# Altium footprint library SparkFun-Aesthetics.PCBLIB: 96 footprints (part 4 of 6)
Each footprint in its own frame and in the unit in brackets; x right, y up, seen from the top. Pads: shape width x height; smd on the part's side, far side on the other; paste and mask are expansions set on the pad; w line width, h text height; cw(c..) or ccw(c..) is an arc to the next point about the centre after c.
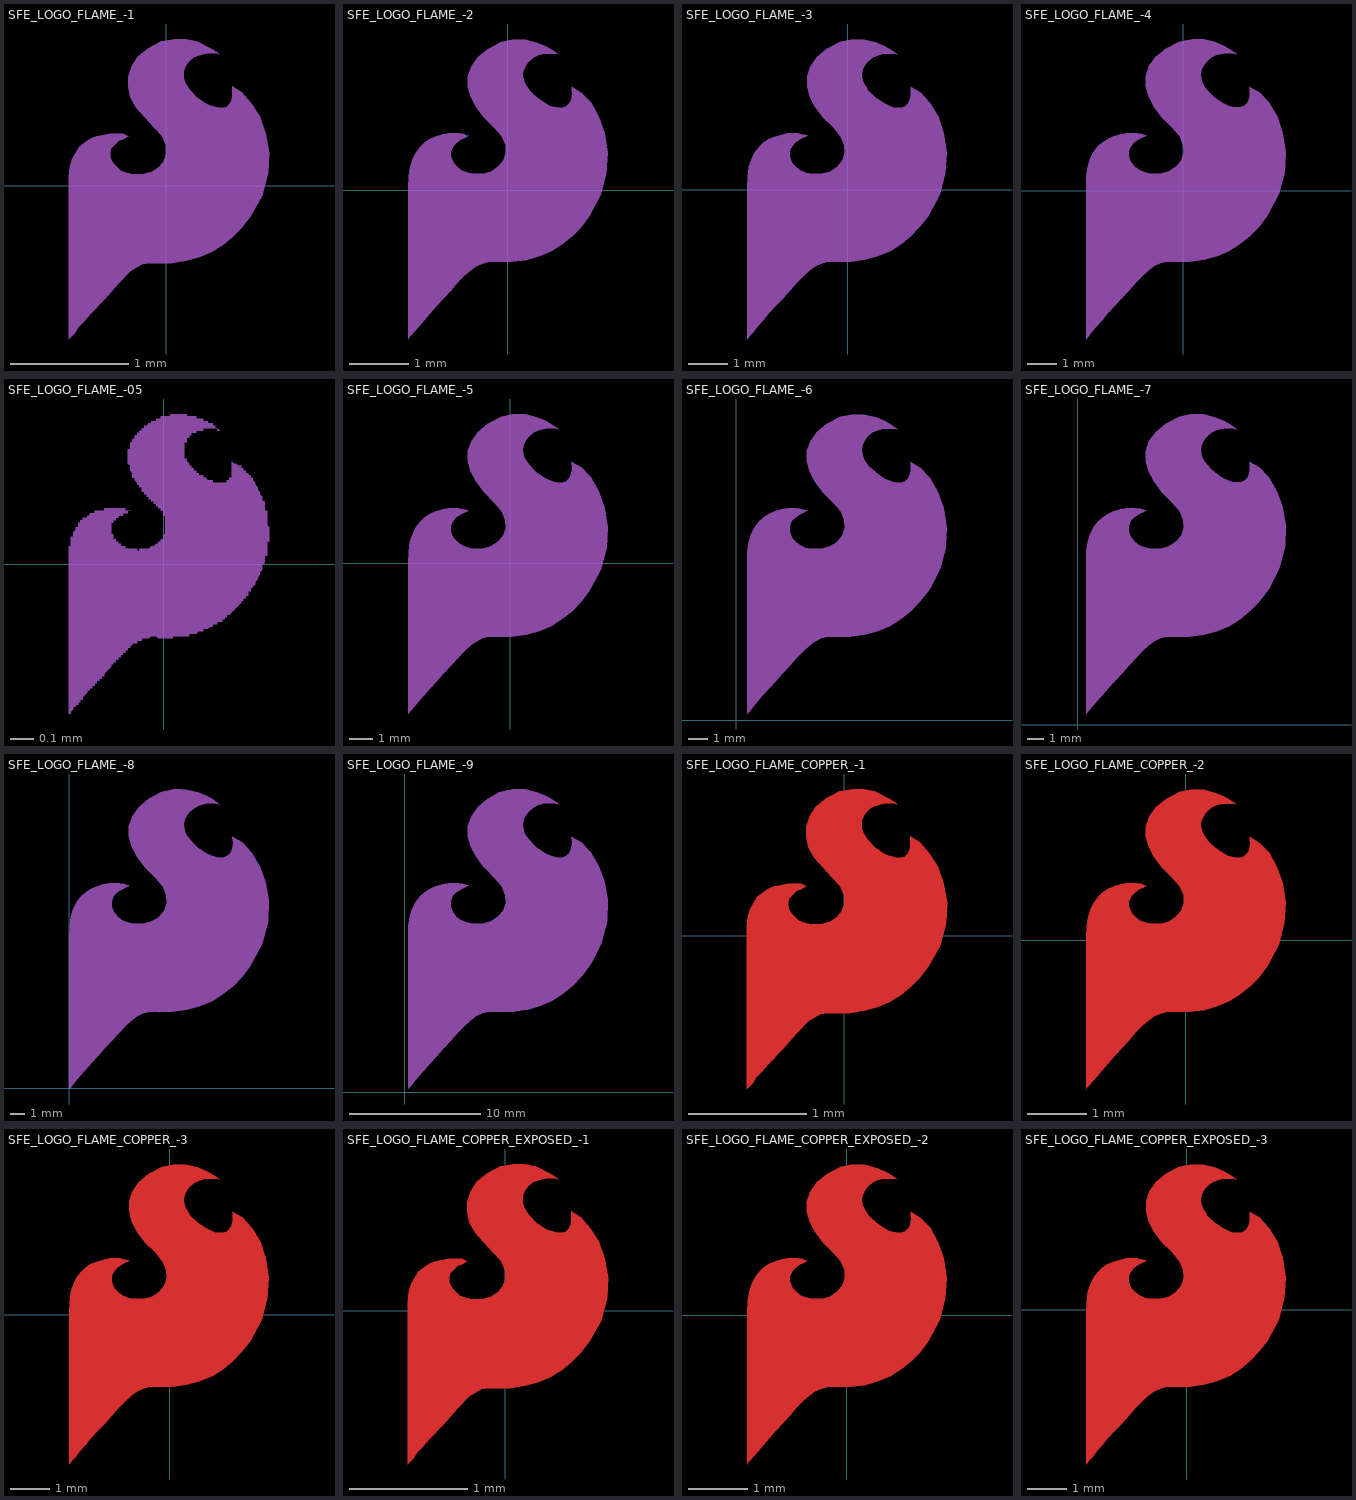
[diagram p3: the footprints below, top view; thin cyan lines are the x and y axes]

## SFE_LOGO_FLAME_-1 [mm]
tPlace:
  region: 0.557,0.839 0.557,0.749 0.547,0.719 0.537,0.699 0.507,0.669 0.477,0.659 0.447,0.659 0.367,0.679 0.327,0.699 0.297,0.719 0.257,0.749 0.197,0.809 0.157,0.869 0.147,0.909 0.147,0.969 0.157,0.999 0.167,1.019 0.187,1.049 0.227,1.079 0.267,1.099 0.317,1.109 0.357,1.119 0.417,1.119 0.437,1.109 0.447,1.109 0.437,1.119 0.397,1.149 0.257,1.219 0.167,1.239 0.067,1.239 -0.043,1.219 -0.153,1.159 -0.243,1.089 -0.293,1.009 -0.323,0.919 -0.323,0.839 -0.303,0.749 -0.253,0.659 -0.183,0.579 -0.103,0.489 -0.033,0.419 -0.003,0.339 -0.003,0.269 -0.023,0.209 -0.063,0.159 -0.123,0.119 -0.203,0.099 -0.283,0.099 -0.333,0.109 -0.383,0.129 -0.443,0.189 -0.463,0.219 -0.473,0.249 -0.473,0.289 -0.463,0.319 -0.403,0.379 -0.373,0.389 -0.333,0.409 -0.323,0.419 -0.363,0.439 -0.483,0.439 -0.543,0.429 -0.593,0.419 -0.643,0.399 -0.683,0.369 -0.733,0.329 -0.793,0.229 -0.813,0.159 -0.823,0.079 -0.823,-1.291 -0.773,-1.241 -0.743,-1.191 -0.693,-1.141 -0.643,-1.081 -0.523,-0.961 -0.403,-0.821 -0.303,-0.721 -0.203,-0.661 -0.143,-0.651 0.047,-0.651 0.167,-0.631 0.277,-0.601 0.377,-0.561 0.477,-0.501 0.557,-0.431 0.637,-0.351 0.707,-0.261 0.807,-0.081 0.857,0.109 0.867,0.279 0.837,0.439 0.787,0.589 0.717,0.699 0.637,0.789

## SFE_LOGO_FLAME_-2 [mm]
tPlace:
  region: 1.088,1.756 1.088,1.696 1.098,1.646 1.078,1.526 1.048,1.476 0.998,1.426 0.928,1.396 0.858,1.396 0.718,1.436 0.638,1.476 0.498,1.576 0.428,1.636 0.378,1.686 0.328,1.766 0.288,1.826 0.268,1.896 0.258,1.956 0.268,2.016 0.288,2.066 0.318,2.126 0.358,2.176 0.438,2.246 0.518,2.286 0.598,2.306 0.688,2.316 0.818,2.316 0.858,2.306 0.868,2.306 0.838,2.326 0.768,2.376 0.648,2.446 0.498,2.506 0.318,2.556 0.118,2.566 -0.102,2.516 -0.332,2.396 -0.502,2.256 -0.612,2.096 -0.672,1.926 -0.672,1.756 -0.622,1.586 -0.532,1.406 -0.402,1.236 -0.232,1.066 -0.102,0.916 -0.032,0.766 -0.032,0.626 -0.072,0.496 -0.162,0.396 -0.282,0.316 -0.422,0.276 -0.582,0.276 -0.692,0.306 -0.782,0.336 -0.852,0.396 -0.912,0.456 -0.942,0.516 -0.962,0.586 -0.962,0.656 -0.942,0.716 -0.912,0.756 -0.872,0.796 -0.822,0.836 -0.782,0.866 -0.732,0.886 -0.672,0.916 -0.662,0.926 -0.672,0.926 -0.702,0.936 -0.752,0.956 -0.822,0.966 -1.002,0.966 -1.102,0.946 -1.212,0.916 -1.312,0.876 -1.402,0.816 -1.482,0.736 -1.552,0.646 -1.612,0.536 -1.652,0.396 -1.672,0.236 -1.682,0.046 -1.682,-2.524 -1.672,-2.504 -1.632,-2.464 -1.572,-2.394 -1.502,-2.304 -1.412,-2.204 -1.312,-2.084 -1.202,-1.964 -1.082,-1.834 -0.952,-1.694 -0.842,-1.564 -0.732,-1.454 -0.632,-1.364 -0.532,-1.294 -0.422,-1.244 -0.312,-1.214 0.078,-1.214 0.318,-1.184 0.538,-1.124 0.738,-1.034 0.928,-0.914 1.098,-0.784 1.248,-0.624 1.388,-0.444 1.578,-0.074 1.678,0.286 1.698,0.636 1.648,0.966 1.548,1.246 1.418,1.486 1.248,1.656

## SFE_LOGO_FLAME_-3 [mm]
tPlace:
  region: 1.602,2.603 1.602,2.583 1.612,2.533 1.612,2.373 1.582,2.283 1.542,2.193 1.472,2.123 1.362,2.083 1.262,2.083 1.152,2.103 1.042,2.143 0.932,2.203 0.712,2.343 0.532,2.523 0.462,2.633 0.402,2.733 0.372,2.823 0.362,2.923 0.372,3.003 0.402,3.093 0.452,3.173 0.512,3.253 0.622,3.343 0.752,3.413 0.872,3.443 1.002,3.463 1.102,3.463 1.192,3.453 1.252,3.443 1.272,3.443 1.232,3.473 1.122,3.553 0.942,3.653 0.722,3.753 0.442,3.813 0.142,3.833 -0.188,3.763 -0.528,3.583 -0.788,3.363 -0.948,3.123 -1.028,2.883 -1.028,2.623 -0.958,2.363 -0.818,2.103 -0.628,1.843 -0.368,1.583 -0.178,1.353 -0.078,1.133 -0.068,0.923 -0.138,0.733 -0.268,0.573 -0.448,0.463 -0.668,0.403 -0.908,0.403 -1.068,0.433 -1.198,0.493 -1.308,0.573 -1.388,0.663 -1.448,0.763 -1.468,0.863 -1.468,0.963 -1.448,1.053 -1.398,1.123 -1.338,1.183 -1.268,1.243 -1.128,1.323 -1.068,1.343 -1.038,1.363 -1.018,1.373 -1.038,1.383 -1.088,1.393 -1.158,1.413 -1.268,1.433 -1.388,1.443 -1.528,1.433 -1.678,1.403 -1.848,1.353 -1.988,1.293 -2.128,1.203 -2.248,1.093 -2.358,0.953 -2.438,0.783 -2.508,0.583 -2.538,0.333 -2.548,0.043 -2.548,-3.797 -2.528,-3.777 -2.478,-3.707 -2.388,-3.607 -2.278,-3.477 -2.148,-3.317 -1.998,-3.147 -1.828,-2.957 -1.648,-2.767 -1.458,-2.557 -1.288,-2.367 -1.128,-2.207 -0.978,-2.067 -0.828,-1.957 -0.668,-1.877 -0.488,-1.837 0.092,-1.837 0.442,-1.787 0.772,-1.697 1.082,-1.567 1.362,-1.387 1.612,-1.187 1.842,-0.947 2.052,-0.677 2.342,-0.127 2.492,0.423 2.522,0.943 2.452,1.433 2.302,1.863 2.092,2.213 1.852,2.473 1.592,2.613

## SFE_LOGO_FLAME_-4 [mm]
tPlace:
  region: 2.233,3.522 2.243,3.502 2.253,3.432 2.253,3.332 2.243,3.212 2.223,3.092 2.163,2.972 2.063,2.882 1.913,2.832 1.783,2.832 1.643,2.852 1.493,2.912 1.343,2.982 1.193,3.072 1.053,3.182 0.923,3.292 0.813,3.412 0.713,3.552 0.643,3.692 0.603,3.822 0.583,3.942 0.603,4.062 0.643,4.172 0.703,4.282 0.783,4.382 0.933,4.512 1.103,4.602 1.273,4.642 1.433,4.662 1.583,4.662 1.693,4.652 1.773,4.642 1.803,4.642 1.753,4.682 1.603,4.792 1.363,4.922 1.063,5.052 0.703,5.142 0.293,5.152 -0.147,5.062 -0.597,4.822 -0.947,4.532 -1.167,4.222 -1.277,3.892 -1.277,3.542 -1.177,3.202 -0.997,2.852 -0.727,2.502 -0.397,2.162 -0.127,1.852 -0.007,1.552 0.013,1.272 -0.077,1.022 -0.257,0.822 -0.497,0.662 -0.787,0.582 -1.107,0.582 -1.317,0.632 -1.497,0.712 -1.637,0.812 -1.747,0.932 -1.817,1.072 -1.857,1.202 -1.857,1.332 -1.817,1.452 -1.757,1.552 -1.677,1.632 -1.587,1.702 -1.487,1.762 -1.397,1.812 -1.327,1.842 -1.277,1.862 -1.257,1.882 -1.277,1.892 -1.347,1.912 -1.447,1.932 -1.577,1.952 -1.747,1.972 -1.937,1.952 -2.137,1.922 -2.357,1.862 -2.547,1.772 -2.727,1.652 -2.897,1.512 -3.037,1.322 -3.157,1.102 -3.237,0.822 -3.287,0.492 -3.297,0.112 -3.297,-5.018 -3.267,-4.988 -3.197,-4.898 -3.087,-4.758 -2.937,-4.588 -2.757,-4.378 -2.557,-4.148 -2.327,-3.898 -2.097,-3.638 -1.837,-3.358 -1.607,-3.108 -1.397,-2.888 -1.197,-2.698 -0.997,-2.558 -0.787,-2.448 -0.547,-2.398 0.223,-2.398 0.703,-2.338 1.143,-2.208 1.543,-2.038 1.913,-1.808 2.253,-1.528 2.563,-1.208 2.843,-0.848 3.233,-0.118 3.433,0.612 3.473,1.312 3.373,1.962 3.173,2.532 2.893,3.002 2.573,3.342 2.233,3.532

## SFE_LOGO_FLAME_-05 [mm]
tPlace:
  drawing of 1 lines, arcs and shapes, not listed

## SFE_LOGO_FLAME_-5 [mm]
tPlace:
  region: 2.584,4.293 2.594,4.263 2.604,4.173 2.614,4.053 2.604,3.903 2.564,3.753 2.494,3.613 2.364,3.493 2.184,3.423 2.024,3.423 1.844,3.463 1.664,3.523 1.474,3.613 1.284,3.733 1.104,3.863 0.954,4.003 0.814,4.153 0.684,4.333 0.594,4.503 0.544,4.663 0.524,4.823 0.544,4.963 0.594,5.103 0.664,5.243 0.774,5.373 0.964,5.533 1.164,5.633 1.384,5.693 1.584,5.723 1.764,5.723 1.914,5.703 2.004,5.693 2.044,5.693 1.974,5.743 1.784,5.873 1.494,6.043 1.114,6.203 0.664,6.313 0.154,6.333 -0.386,6.213 -0.956,5.923 -1.386,5.553 -1.666,5.163 -1.796,4.753 -1.806,4.323 -1.686,3.883 -1.446,3.453 -1.116,3.013 -0.696,2.593 -0.376,2.213 -0.216,1.833 -0.196,1.483 -0.306,1.173 -0.526,0.913 -0.826,0.723 -1.186,0.623 -1.596,0.623 -1.856,0.683 -2.076,0.783 -2.256,0.913 -2.396,1.063 -2.486,1.223 -2.536,1.393 -2.536,1.563 -2.486,1.713 -2.406,1.823 -2.306,1.933 -2.196,2.013 -2.076,2.093 -1.956,2.153 -1.866,2.193 -1.806,2.223 -1.776,2.233 -1.806,2.253 -1.886,2.273 -2.016,2.303 -2.186,2.333 -2.396,2.353 -2.626,2.333 -2.876,2.293 -3.156,2.213 -3.396,2.103 -3.626,1.963 -3.826,1.773 -4.006,1.543 -4.146,1.263 -4.256,0.923 -4.316,0.513 -4.326,0.033 -4.326,-6.377 -4.296,-6.337 -4.206,-6.227 -4.066,-6.067 -3.876,-5.847 -3.656,-5.587 -3.406,-5.297 -3.126,-4.987 -2.826,-4.657 -2.506,-4.307 -2.216,-3.997 -1.956,-3.717 -1.706,-3.487 -1.456,-3.307 -1.186,-3.177 -0.896,-3.107 0.074,-3.107 0.664,-3.027 1.214,-2.877 1.724,-2.657 2.184,-2.367 2.614,-2.017 2.994,-1.627 3.344,-1.177 3.414,-1.057 3.834,-0.257 4.084,0.653 4.124,1.533 4.004,2.343 3.754,3.053 3.404,3.643 3.004,4.073 2.584,4.313

## SFE_LOGO_FLAME_-6 [mm]
tPlace:
  region: 8.85,13.12 8.86,13.08 8.87,12.98 8.88,12.83 8.87,12.65 8.82,12.47 8.74,12.3 8.59,12.16 8.37,12.08 8.18,12.08 7.96,12.12 7.74,12.2 7.51,12.31 7.29,12.45 7.08,12.61 6.89,12.78 6.72,12.95 6.57,13.17 6.46,13.37 6.4,13.57 6.38,13.75 6.4,13.93 6.46,14.09 6.55,14.26 6.67,14.41 6.9,14.61 7.15,14.73 7.4,14.8 7.65,14.83 7.86,14.83 8.04,14.82 8.16,14.8 8.2,14.8 8.12,14.86 7.89,15.02 7.54,15.22 7.09,15.41 6.54,15.54 5.94,15.57 5.28,15.43 4.6,15.08 4.08,14.64 3.75,14.17 3.59,13.67 3.59,13.16 3.73,12.63 4.01,12.11 4.4,11.59 4.91,11.08 5.3,10.62 5.49,10.17 5.51,9.75 5.38,9.37 5.12,9.06 4.76,8.84 4.32,8.71 3.84,8.71 3.52,8.78 3.25,8.9 3.04,9.06 2.87,9.24 2.76,9.44 2.71,9.64 2.71,9.84 2.76,10.02 2.85,10.16 2.98,10.28 3.12,10.39 3.26,10.48 3.4,10.55 3.51,10.6 3.59,10.64 3.61,10.65 3.58,10.67 3.48,10.7 3.33,10.74 3.12,10.77 2.88,10.79 2.6,10.77 2.29,10.72 1.96,10.63 1.67,10.5 1.4,10.32 1.15,10.1 0.94,9.82 0.77,9.48 0.64,9.07 0.57,8.58 0.56,8 0.56,7.04 0.56,6.08 0.56,5.12 0.56,4.16 0.56,3.2 0.56,2.24 0.56,1.28 0.56,0.32 0.59,0.36 0.7,0.49 0.87,0.69 1.09,0.96 1.36,1.27 1.67,1.62 2,1.99 2.36,2.38 2.74,2.8 3.08,3.18 3.4,3.51 3.7,3.78 4,4 4.32,4.16 4.67,4.24 5.06,4.24 5.83,4.24 6.54,4.34 7.2,4.52 7.81,4.79 8.37,5.13 8.88,5.54 9.34,6.02 9.75,6.56 9.85,6.7 10.34,7.66 10.4,7.8 10.64,8.75 10.66,8.89 10.7,9.8 10.55,10.78 10.25,11.63 9.83,12.34 9.35,12.85 8.84,13.14

## SFE_LOGO_FLAME_-7 [mm]
tPlace:
  region: 10.18,15.58 10.18,15.54 10.2,15.41 10.21,15.24 10.2,15.03 10.15,14.82 10.04,14.62 9.87,14.46 9.62,14.37 9.39,14.37 9.14,14.41 8.88,14.5 8.62,14.63 8.35,14.8 8.11,14.98 7.89,15.18 7.69,15.39 7.51,15.64 7.39,15.87 7.31,16.1 7.29,16.31 7.31,16.52 7.38,16.71 7.49,16.9 7.64,17.08 7.9,17.31 8.19,17.46 8.49,17.54 8.77,17.58 9.03,17.58 9.23,17.56 9.37,17.53 9.42,17.53 9.32,17.61 9.06,17.79 8.65,18.03 8.12,18.25 7.49,18.41 6.78,18.43 6.01,18.27 5.22,17.86 4.61,17.35 4.22,16.8 4.04,16.22 4.03,15.62 4.2,15.01 4.53,14.4 4.99,13.79 5.58,13.19 6.03,12.66 6.26,12.14 6.28,11.65 6.12,11.21 5.82,10.85 5.4,10.58 4.89,10.44 4.33,10.44 3.96,10.52 3.64,10.66 3.39,10.84 3.2,11.05 3.08,11.28 3.01,11.52 3.01,11.75 3.07,11.96 3.18,12.12 3.32,12.27 3.49,12.39 3.66,12.5 3.81,12.58 3.94,12.64 4.03,12.68 4.07,12.7 4.03,12.72 3.91,12.76 3.73,12.8 3.49,12.84 3.21,12.86 2.88,12.84 2.52,12.78 2.14,12.67 1.8,12.52 1.48,12.31 1.2,12.06 0.95,11.73 0.75,11.33 0.6,10.85 0.51,10.28 0.5,9.61 0.5,8.49 0.5,7.37 0.5,6.25 0.5,5.13 0.5,4 0.5,2.88 0.5,1.76 0.5,0.64 0.54,0.69 0.67,0.85 0.87,1.08 1.13,1.39 1.44,1.75 1.79,2.16 2.18,2.59 2.6,3.04 3.05,3.53 3.45,3.98 3.82,4.36 4.17,4.69 4.52,4.94 4.89,5.12 5.3,5.22 5.76,5.22 6.65,5.22 7.49,5.33 8.26,5.54 8.97,5.85 9.62,6.25 10.21,6.74 10.75,7.3 11.23,7.92 11.34,8.08 11.92,9.21 11.98,9.37 12.27,10.48 12.29,10.64 12.33,11.71 12.32,11.86 12.16,12.84 12.13,12.98 11.81,13.84 11.32,14.67 10.76,15.27 10.17,15.6

## SFE_LOGO_FLAME_-8 [mm]
tPlace:
  region: 11.06,17.02 11.06,16.96 11.09,16.82 11.1,16.62 11.08,16.39 11.02,16.14 10.91,15.92 10.71,15.74 10.42,15.63 10.16,15.63 9.88,15.68 9.58,15.78 9.27,15.93 8.98,16.12 8.69,16.33 8.44,16.56 8.22,16.79 8.01,17.08 7.87,17.35 7.79,17.61 7.76,17.85 7.79,18.09 7.87,18.31 7.99,18.53 8.16,18.73 8.46,18.99 8.79,19.16 9.13,19.26 9.45,19.3 9.74,19.3 9.98,19.27 10.13,19.25 10.19,19.25 10.08,19.33 9.78,19.54 9.32,19.81 8.71,20.07 7.98,20.24 7.17,20.28 6.3,20.09 6.19,20.05 5.39,19.62 4.7,19.03 4.26,18.41 4.04,17.74 4.04,17.06 4.23,16.36 4.6,15.66 5.13,14.97 5.8,14.29 6.32,13.68 6.58,13.08 6.6,12.52 6.43,12.02 6.08,11.6 5.6,11.3 5.02,11.14 4.37,11.14 3.95,11.23 3.59,11.39 3.31,11.6 3.09,11.84 2.94,12.1 2.87,12.37 2.87,12.64 2.94,12.88 3.06,13.06 3.23,13.23 3.41,13.37 3.61,13.49 3.79,13.59 3.93,13.66 4.04,13.7 4.08,13.72 4.03,13.74 3.9,13.79 3.69,13.84 3.42,13.88 3.1,13.9 2.72,13.88 2.31,13.81 1.88,13.69 1.49,13.51 1.12,13.28 0.79,12.99 0.51,12.62 0.28,12.16 0.11,11.61 0.02,10.96 0,10.19 0,8.91 0,7.63 0,6.35 0,5.07 0,3.78 0,2.5 0,1.22 0,-0.06 0.05,0 0.19,0.17 0.42,0.44 0.71,0.79 1.07,1.21 1.48,1.67 1.92,2.17 2.4,2.69 2.91,3.25 3.37,3.75 3.79,4.19 4.19,4.56 4.6,4.86 5.02,5.06 5.49,5.17 6.01,5.17 6.14,5.16 7.03,5.17 7.98,5.3 8.86,5.54 9.68,5.9 10.42,6.36 11.1,6.91 11.71,7.55 12.26,8.26 12.38,8.45 13.05,9.73 13.12,9.91 13.45,11.19 13.48,11.37 13.52,12.59 13.51,12.76 13.33,13.89 13.29,14.04 12.92,15.03 12.86,15.16 12.37,15.97 11.73,16.66 11.05,17.04

## SFE_LOGO_FLAME_-9 [mm]
tPlace:
  region: 12.72,19.45 12.73,19.39 12.76,19.23 12.77,19 12.75,18.74 12.68,18.46 12.55,18.21 12.33,18.01 12,17.88 11.71,17.88 11.4,17.94 11.06,18.06 10.72,18.23 10.38,18.44 10.06,18.67 9.78,18.93 9.53,19.19 9.3,19.52 9.14,19.82 9.04,20.11 9.01,20.39 9.04,20.65 9.13,20.9 9.27,21.15 9.46,21.38 9.8,21.67 10.17,21.86 10.55,21.97 10.92,22.01 11.24,22.01 11.51,21.99 11.68,21.96 11.75,21.96 11.63,22.05 11.29,22.29 10.76,22.59 10.08,22.88 9.26,23.08 8.35,23.11 8.23,23.1 7.37,22.91 7.24,22.86 6.34,22.38 6.23,22.3 5.57,21.72 5.07,21.01 4.83,20.27 4.83,19.5 5.04,18.71 5.46,17.93 6.05,17.14 6.14,17.05 6.81,16.38 7.4,15.69 7.68,15.02 7.71,14.39 7.51,13.82 7.12,13.36 6.59,13.02 5.93,12.83 5.2,12.83 4.73,12.94 4.33,13.12 4,13.35 3.76,13.62 3.6,13.92 3.51,14.22 3.51,14.52 3.59,14.79 3.73,15 3.91,15.19 4.12,15.35 4.34,15.48 4.54,15.59 4.71,15.67 4.83,15.72 4.87,15.74 4.82,15.77 4.67,15.81 4.44,15.87 4.13,15.92 3.77,15.95 3.35,15.92 2.88,15.85 2.39,15.7 1.96,15.51 1.55,15.25 1.18,14.91 0.86,14.5 0.6,13.99 0.41,13.37 0.3,12.63 0.28,11.77 0.28,10.33 0.28,8.89 0.28,7.44 0.28,6 0.28,4.56 0.28,3.12 0.28,1.68 0.28,0.24 0.34,0.3 0.5,0.5 0.75,0.8 1.09,1.2 1.49,1.66 1.95,2.19 2.45,2.75 2.98,3.33 3.56,3.96 4.07,4.53 4.55,5.02 5,5.44 5.45,5.77 5.93,6 6.46,6.12 7.05,6.12 7.19,6.11 8.2,6.12 8.33,6.14 9.26,6.27 9.39,6.29 10.26,6.54 11.17,6.94 12.01,7.46 12.77,8.08 13.46,8.79 13.54,8.89 14.08,9.6 14.22,9.81 14.96,11.25 15.04,11.46 15.41,12.89 15.44,13.09 15.5,14.47 15.48,14.66 15.28,15.93 15.23,16.1 14.82,17.21 14.75,17.36 14.2,18.27 14.11,18.38 13.48,19.04 12.72,19.47

## SFE_LOGO_FLAME_COPPER_-1 [mm]
Top:
  region: 0.557,0.839 0.557,0.749 0.547,0.719 0.537,0.699 0.507,0.669 0.477,0.659 0.447,0.659 0.367,0.679 0.327,0.699 0.297,0.719 0.257,0.749 0.197,0.809 0.157,0.869 0.147,0.909 0.147,0.969 0.157,0.999 0.167,1.019 0.187,1.049 0.227,1.079 0.267,1.099 0.317,1.109 0.357,1.119 0.417,1.119 0.437,1.109 0.447,1.109 0.437,1.119 0.397,1.149 0.257,1.219 0.167,1.239 0.067,1.239 -0.043,1.219 -0.153,1.159 -0.243,1.089 -0.293,1.009 -0.323,0.919 -0.323,0.839 -0.303,0.749 -0.253,0.659 -0.183,0.579 -0.103,0.489 -0.033,0.419 -0.003,0.339 -0.003,0.269 -0.023,0.209 -0.063,0.159 -0.123,0.119 -0.203,0.099 -0.283,0.099 -0.333,0.109 -0.383,0.129 -0.443,0.189 -0.463,0.219 -0.473,0.249 -0.473,0.289 -0.463,0.319 -0.403,0.379 -0.373,0.389 -0.333,0.409 -0.323,0.419 -0.363,0.439 -0.483,0.439 -0.543,0.429 -0.593,0.419 -0.643,0.399 -0.683,0.369 -0.733,0.329 -0.793,0.229 -0.813,0.159 -0.823,0.079 -0.823,-1.291 -0.773,-1.241 -0.743,-1.191 -0.693,-1.141 -0.643,-1.081 -0.523,-0.961 -0.403,-0.821 -0.303,-0.721 -0.203,-0.661 -0.143,-0.651 0.047,-0.651 0.167,-0.631 0.277,-0.601 0.377,-0.561 0.477,-0.501 0.557,-0.431 0.637,-0.351 0.707,-0.261 0.807,-0.081 0.857,0.109 0.867,0.279 0.837,0.439 0.787,0.589 0.717,0.699 0.637,0.789

## SFE_LOGO_FLAME_COPPER_-2 [mm]
Top:
  region: 1.088,1.756 1.088,1.696 1.098,1.646 1.078,1.526 1.048,1.476 0.998,1.426 0.928,1.396 0.858,1.396 0.718,1.436 0.638,1.476 0.498,1.576 0.428,1.636 0.378,1.686 0.328,1.766 0.288,1.826 0.268,1.896 0.258,1.956 0.268,2.016 0.288,2.066 0.318,2.126 0.358,2.176 0.438,2.246 0.518,2.286 0.598,2.306 0.688,2.316 0.818,2.316 0.858,2.306 0.868,2.306 0.838,2.326 0.768,2.376 0.648,2.446 0.498,2.506 0.318,2.556 0.118,2.566 -0.102,2.516 -0.332,2.396 -0.502,2.256 -0.612,2.096 -0.672,1.926 -0.672,1.756 -0.622,1.586 -0.532,1.406 -0.402,1.236 -0.232,1.066 -0.102,0.916 -0.032,0.766 -0.032,0.626 -0.072,0.496 -0.162,0.396 -0.282,0.316 -0.422,0.276 -0.582,0.276 -0.692,0.306 -0.782,0.336 -0.852,0.396 -0.912,0.456 -0.942,0.516 -0.962,0.586 -0.962,0.656 -0.942,0.716 -0.912,0.756 -0.872,0.796 -0.822,0.836 -0.782,0.866 -0.732,0.886 -0.672,0.916 -0.662,0.926 -0.672,0.926 -0.702,0.936 -0.752,0.956 -0.822,0.966 -1.002,0.966 -1.102,0.946 -1.212,0.916 -1.312,0.876 -1.402,0.816 -1.482,0.736 -1.552,0.646 -1.612,0.536 -1.652,0.396 -1.672,0.236 -1.682,0.046 -1.682,-2.524 -1.672,-2.504 -1.632,-2.464 -1.572,-2.394 -1.502,-2.304 -1.412,-2.204 -1.312,-2.084 -1.202,-1.964 -1.082,-1.834 -0.952,-1.694 -0.842,-1.564 -0.732,-1.454 -0.632,-1.364 -0.532,-1.294 -0.422,-1.244 -0.312,-1.214 0.078,-1.214 0.318,-1.184 0.538,-1.124 0.738,-1.034 0.928,-0.914 1.098,-0.784 1.248,-0.624 1.388,-0.444 1.578,-0.074 1.678,0.286 1.698,0.636 1.648,0.966 1.548,1.246 1.418,1.486 1.248,1.656

## SFE_LOGO_FLAME_COPPER_-3 [mm]
Top:
  region: 1.602,2.603 1.602,2.583 1.612,2.533 1.612,2.373 1.582,2.283 1.542,2.193 1.472,2.123 1.362,2.083 1.262,2.083 1.152,2.103 1.042,2.143 0.932,2.203 0.712,2.343 0.532,2.523 0.462,2.633 0.402,2.733 0.372,2.823 0.362,2.923 0.372,3.003 0.402,3.093 0.452,3.173 0.512,3.253 0.622,3.343 0.752,3.413 0.872,3.443 1.002,3.463 1.102,3.463 1.192,3.453 1.252,3.443 1.272,3.443 1.232,3.473 1.122,3.553 0.942,3.653 0.722,3.753 0.442,3.813 0.142,3.833 -0.188,3.763 -0.528,3.583 -0.788,3.363 -0.948,3.123 -1.028,2.883 -1.028,2.623 -0.958,2.363 -0.818,2.103 -0.628,1.843 -0.368,1.583 -0.178,1.353 -0.078,1.133 -0.068,0.923 -0.138,0.733 -0.268,0.573 -0.448,0.463 -0.668,0.403 -0.908,0.403 -1.068,0.433 -1.198,0.493 -1.308,0.573 -1.388,0.663 -1.448,0.763 -1.468,0.863 -1.468,0.963 -1.448,1.053 -1.398,1.123 -1.338,1.183 -1.268,1.243 -1.128,1.323 -1.068,1.343 -1.038,1.363 -1.018,1.373 -1.038,1.383 -1.088,1.393 -1.158,1.413 -1.268,1.433 -1.388,1.443 -1.528,1.433 -1.678,1.403 -1.848,1.353 -1.988,1.293 -2.128,1.203 -2.248,1.093 -2.358,0.953 -2.438,0.783 -2.508,0.583 -2.538,0.333 -2.548,0.043 -2.548,-3.797 -2.528,-3.777 -2.478,-3.707 -2.388,-3.607 -2.278,-3.477 -2.148,-3.317 -1.998,-3.147 -1.828,-2.957 -1.648,-2.767 -1.458,-2.557 -1.288,-2.367 -1.128,-2.207 -0.978,-2.067 -0.828,-1.957 -0.668,-1.877 -0.488,-1.837 0.092,-1.837 0.442,-1.787 0.772,-1.697 1.082,-1.567 1.362,-1.387 1.612,-1.187 1.842,-0.947 2.052,-0.677 2.342,-0.127 2.492,0.423 2.522,0.943 2.452,1.433 2.302,1.863 2.092,2.213 1.852,2.473 1.592,2.613

## SFE_LOGO_FLAME_COPPER_EXPOSED_-1 [mm]
Top:
  region: 0.557,0.839 0.557,0.749 0.547,0.719 0.537,0.699 0.507,0.669 0.477,0.659 0.447,0.659 0.367,0.679 0.327,0.699 0.297,0.719 0.257,0.749 0.197,0.809 0.157,0.869 0.147,0.909 0.147,0.969 0.157,0.999 0.167,1.019 0.187,1.049 0.227,1.079 0.267,1.099 0.317,1.109 0.357,1.119 0.417,1.119 0.437,1.109 0.447,1.109 0.437,1.119 0.397,1.149 0.257,1.219 0.167,1.239 0.067,1.239 -0.043,1.219 -0.153,1.159 -0.243,1.089 -0.293,1.009 -0.323,0.919 -0.323,0.839 -0.303,0.749 -0.253,0.659 -0.183,0.579 -0.103,0.489 -0.033,0.419 -0.003,0.339 -0.003,0.269 -0.023,0.209 -0.063,0.159 -0.123,0.119 -0.203,0.099 -0.283,0.099 -0.333,0.109 -0.383,0.129 -0.443,0.189 -0.463,0.219 -0.473,0.249 -0.473,0.289 -0.463,0.319 -0.403,0.379 -0.373,0.389 -0.333,0.409 -0.323,0.419 -0.363,0.439 -0.483,0.439 -0.543,0.429 -0.593,0.419 -0.643,0.399 -0.683,0.369 -0.733,0.329 -0.793,0.229 -0.813,0.159 -0.823,0.079 -0.823,-1.291 -0.773,-1.241 -0.743,-1.191 -0.693,-1.141 -0.643,-1.081 -0.523,-0.961 -0.403,-0.821 -0.303,-0.721 -0.203,-0.661 -0.143,-0.651 0.047,-0.651 0.167,-0.631 0.277,-0.601 0.377,-0.561 0.477,-0.501 0.557,-0.431 0.637,-0.351 0.707,-0.261 0.807,-0.081 0.857,0.109 0.867,0.279 0.837,0.439 0.787,0.589 0.717,0.699 0.637,0.789
Top Solder:
  region: 0.557,0.839 0.557,0.749 0.547,0.719 0.537,0.699 0.507,0.669 0.477,0.659 0.447,0.659 0.367,0.679 0.327,0.699 0.297,0.719 0.257,0.749 0.197,0.809 0.157,0.869 0.147,0.909 0.147,0.969 0.157,0.999 0.167,1.019 0.187,1.049 0.227,1.079 0.267,1.099 0.317,1.109 0.357,1.119 0.417,1.119 0.437,1.109 0.447,1.109 0.437,1.119 0.397,1.149 0.257,1.219 0.167,1.239 0.067,1.239 -0.043,1.219 -0.153,1.159 -0.243,1.089 -0.293,1.009 -0.323,0.919 -0.323,0.839 -0.303,0.749 -0.253,0.659 -0.183,0.579 -0.103,0.489 -0.033,0.419 -0.003,0.339 -0.003,0.269 -0.023,0.209 -0.063,0.159 -0.123,0.119 -0.203,0.099 -0.283,0.099 -0.333,0.109 -0.383,0.129 -0.443,0.189 -0.463,0.219 -0.473,0.249 -0.473,0.289 -0.463,0.319 -0.403,0.379 -0.373,0.389 -0.333,0.409 -0.323,0.419 -0.363,0.439 -0.483,0.439 -0.543,0.429 -0.593,0.419 -0.643,0.399 -0.683,0.369 -0.733,0.329 -0.793,0.229 -0.813,0.159 -0.823,0.079 -0.823,-1.291 -0.773,-1.241 -0.743,-1.191 -0.693,-1.141 -0.643,-1.081 -0.523,-0.961 -0.403,-0.821 -0.303,-0.721 -0.203,-0.661 -0.143,-0.651 0.047,-0.651 0.167,-0.631 0.277,-0.601 0.377,-0.561 0.477,-0.501 0.557,-0.431 0.637,-0.351 0.707,-0.261 0.807,-0.081 0.857,0.109 0.867,0.279 0.837,0.439 0.787,0.589 0.717,0.699 0.637,0.789

## SFE_LOGO_FLAME_COPPER_EXPOSED_-2 [mm]
Top:
  region: 1.088,1.756 1.088,1.696 1.098,1.646 1.078,1.526 1.048,1.476 0.998,1.426 0.928,1.396 0.858,1.396 0.718,1.436 0.638,1.476 0.498,1.576 0.428,1.636 0.378,1.686 0.328,1.766 0.288,1.826 0.268,1.896 0.258,1.956 0.268,2.016 0.288,2.066 0.318,2.126 0.358,2.176 0.438,2.246 0.518,2.286 0.598,2.306 0.688,2.316 0.818,2.316 0.858,2.306 0.868,2.306 0.838,2.326 0.768,2.376 0.648,2.446 0.498,2.506 0.318,2.556 0.118,2.566 -0.102,2.516 -0.332,2.396 -0.502,2.256 -0.612,2.096 -0.672,1.926 -0.672,1.756 -0.622,1.586 -0.532,1.406 -0.402,1.236 -0.232,1.066 -0.102,0.916 -0.032,0.766 -0.032,0.626 -0.072,0.496 -0.162,0.396 -0.282,0.316 -0.422,0.276 -0.582,0.276 -0.692,0.306 -0.782,0.336 -0.852,0.396 -0.912,0.456 -0.942,0.516 -0.962,0.586 -0.962,0.656 -0.942,0.716 -0.912,0.756 -0.872,0.796 -0.822,0.836 -0.782,0.866 -0.732,0.886 -0.672,0.916 -0.662,0.926 -0.672,0.926 -0.702,0.936 -0.752,0.956 -0.822,0.966 -1.002,0.966 -1.102,0.946 -1.212,0.916 -1.312,0.876 -1.402,0.816 -1.482,0.736 -1.552,0.646 -1.612,0.536 -1.652,0.396 -1.672,0.236 -1.682,0.046 -1.682,-2.524 -1.672,-2.504 -1.632,-2.464 -1.572,-2.394 -1.502,-2.304 -1.412,-2.204 -1.312,-2.084 -1.202,-1.964 -1.082,-1.834 -0.952,-1.694 -0.842,-1.564 -0.732,-1.454 -0.632,-1.364 -0.532,-1.294 -0.422,-1.244 -0.312,-1.214 0.078,-1.214 0.318,-1.184 0.538,-1.124 0.738,-1.034 0.928,-0.914 1.098,-0.784 1.248,-0.624 1.388,-0.444 1.578,-0.074 1.678,0.286 1.698,0.636 1.648,0.966 1.548,1.246 1.418,1.486 1.248,1.656
Top Solder:
  region: 1.088,1.756 1.088,1.696 1.098,1.646 1.078,1.526 1.048,1.476 0.998,1.426 0.928,1.396 0.858,1.396 0.718,1.436 0.638,1.476 0.498,1.576 0.428,1.636 0.378,1.686 0.328,1.766 0.288,1.826 0.268,1.896 0.258,1.956 0.268,2.016 0.288,2.066 0.318,2.126 0.358,2.176 0.438,2.246 0.518,2.286 0.598,2.306 0.688,2.316 0.818,2.316 0.858,2.306 0.868,2.306 0.838,2.326 0.768,2.376 0.648,2.446 0.498,2.506 0.318,2.556 0.118,2.566 -0.102,2.516 -0.332,2.396 -0.502,2.256 -0.612,2.096 -0.672,1.926 -0.672,1.756 -0.622,1.586 -0.532,1.406 -0.402,1.236 -0.232,1.066 -0.102,0.916 -0.032,0.766 -0.032,0.626 -0.072,0.496 -0.162,0.396 -0.282,0.316 -0.422,0.276 -0.582,0.276 -0.692,0.306 -0.782,0.336 -0.852,0.396 -0.912,0.456 -0.942,0.516 -0.962,0.586 -0.962,0.656 -0.942,0.716 -0.912,0.756 -0.872,0.796 -0.822,0.836 -0.782,0.866 -0.732,0.886 -0.672,0.916 -0.662,0.926 -0.672,0.926 -0.702,0.936 -0.752,0.956 -0.822,0.966 -1.002,0.966 -1.102,0.946 -1.212,0.916 -1.312,0.876 -1.402,0.816 -1.482,0.736 -1.552,0.646 -1.612,0.536 -1.652,0.396 -1.672,0.236 -1.682,0.046 -1.682,-2.524 -1.672,-2.504 -1.632,-2.464 -1.572,-2.394 -1.502,-2.304 -1.412,-2.204 -1.312,-2.084 -1.202,-1.964 -1.082,-1.834 -0.952,-1.694 -0.842,-1.564 -0.732,-1.454 -0.632,-1.364 -0.532,-1.294 -0.422,-1.244 -0.312,-1.214 0.078,-1.214 0.318,-1.184 0.538,-1.124 0.738,-1.034 0.928,-0.914 1.098,-0.784 1.248,-0.624 1.388,-0.444 1.578,-0.074 1.678,0.286 1.698,0.636 1.648,0.966 1.548,1.246 1.418,1.486 1.248,1.656

## SFE_LOGO_FLAME_COPPER_EXPOSED_-3 [mm]
Top:
  region: 1.602,2.476 1.602,2.456 1.612,2.406 1.612,2.246 1.582,2.156 1.542,2.066 1.472,1.996 1.362,1.956 1.262,1.956 1.152,1.976 1.042,2.016 0.932,2.076 0.712,2.216 0.532,2.396 0.462,2.506 0.402,2.606 0.372,2.696 0.362,2.796 0.372,2.876 0.402,2.966 0.452,3.046 0.512,3.126 0.622,3.216 0.752,3.286 0.872,3.316 1.002,3.336 1.102,3.336 1.192,3.326 1.252,3.316 1.272,3.316 1.232,3.346 1.122,3.426 0.942,3.526 0.722,3.626 0.442,3.686 0.142,3.706 -0.188,3.636 -0.528,3.456 -0.788,3.236 -0.948,2.996 -1.028,2.756 -1.028,2.496 -0.958,2.236 -0.818,1.976 -0.628,1.716 -0.368,1.456 -0.178,1.226 -0.078,1.006 -0.068,0.796 -0.138,0.606 -0.268,0.446 -0.448,0.336 -0.668,0.276 -0.908,0.276 -1.068,0.306 -1.198,0.366 -1.308,0.446 -1.388,0.536 -1.448,0.636 -1.468,0.736 -1.468,0.836 -1.448,0.926 -1.398,0.996 -1.338,1.056 -1.268,1.116 -1.128,1.196 -1.068,1.216 -1.038,1.236 -1.018,1.246 -1.038,1.256 -1.088,1.266 -1.158,1.286 -1.268,1.306 -1.388,1.316 -1.528,1.306 -1.678,1.276 -1.848,1.226 -1.988,1.166 -2.128,1.076 -2.248,0.966 -2.358,0.826 -2.438,0.656 -2.508,0.456 -2.538,0.206 -2.548,-0.084 -2.548,-3.924 -2.528,-3.904 -2.478,-3.834 -2.388,-3.734 -2.278,-3.604 -2.148,-3.444 -1.998,-3.274 -1.828,-3.084 -1.648,-2.894 -1.458,-2.684 -1.288,-2.494 -1.128,-2.334 -0.978,-2.194 -0.828,-2.084 -0.668,-2.004 -0.488,-1.964 0.092,-1.964 0.442,-1.914 0.772,-1.824 1.082,-1.694 1.362,-1.514 1.612,-1.314 1.842,-1.074 2.052,-0.804 2.342,-0.254 2.492,0.296 2.522,0.816 2.452,1.306 2.302,1.736 2.092,2.086 1.852,2.346 1.592,2.486
Top Solder:
  region: 1.602,2.476 1.602,2.456 1.612,2.406 1.612,2.246 1.582,2.156 1.542,2.066 1.472,1.996 1.362,1.956 1.262,1.956 1.152,1.976 1.042,2.016 0.932,2.076 0.712,2.216 0.532,2.396 0.462,2.506 0.402,2.606 0.372,2.696 0.362,2.796 0.372,2.876 0.402,2.966 0.452,3.046 0.512,3.126 0.622,3.216 0.752,3.286 0.872,3.316 1.002,3.336 1.102,3.336 1.192,3.326 1.252,3.316 1.272,3.316 1.232,3.346 1.122,3.426 0.942,3.526 0.722,3.626 0.442,3.686 0.142,3.706 -0.188,3.636 -0.528,3.456 -0.788,3.236 -0.948,2.996 -1.028,2.756 -1.028,2.496 -0.958,2.236 -0.818,1.976 -0.628,1.716 -0.368,1.456 -0.178,1.226 -0.078,1.006 -0.068,0.796 -0.138,0.606 -0.268,0.446 -0.448,0.336 -0.668,0.276 -0.908,0.276 -1.068,0.306 -1.198,0.366 -1.308,0.446 -1.388,0.536 -1.448,0.636 -1.468,0.736 -1.468,0.836 -1.448,0.926 -1.398,0.996 -1.338,1.056 -1.268,1.116 -1.128,1.196 -1.068,1.216 -1.038,1.236 -1.018,1.246 -1.038,1.256 -1.088,1.266 -1.158,1.286 -1.268,1.306 -1.388,1.316 -1.528,1.306 -1.678,1.276 -1.848,1.226 -1.988,1.166 -2.128,1.076 -2.248,0.966 -2.358,0.826 -2.438,0.656 -2.508,0.456 -2.538,0.206 -2.548,-0.084 -2.548,-3.924 -2.528,-3.904 -2.478,-3.834 -2.388,-3.734 -2.278,-3.604 -2.148,-3.444 -1.998,-3.274 -1.828,-3.084 -1.648,-2.894 -1.458,-2.684 -1.288,-2.494 -1.128,-2.334 -0.978,-2.194 -0.828,-2.084 -0.668,-2.004 -0.488,-1.964 0.092,-1.964 0.442,-1.914 0.772,-1.824 1.082,-1.694 1.362,-1.514 1.612,-1.314 1.842,-1.074 2.052,-0.804 2.342,-0.254 2.492,0.296 2.522,0.816 2.452,1.306 2.302,1.736 2.092,2.086 1.852,2.346 1.592,2.486